# Altium integrated library Linear Technology PMIC-Switching Reg LT1074-LT8705.IntLib: 2252 symbols (part 65 of 124)
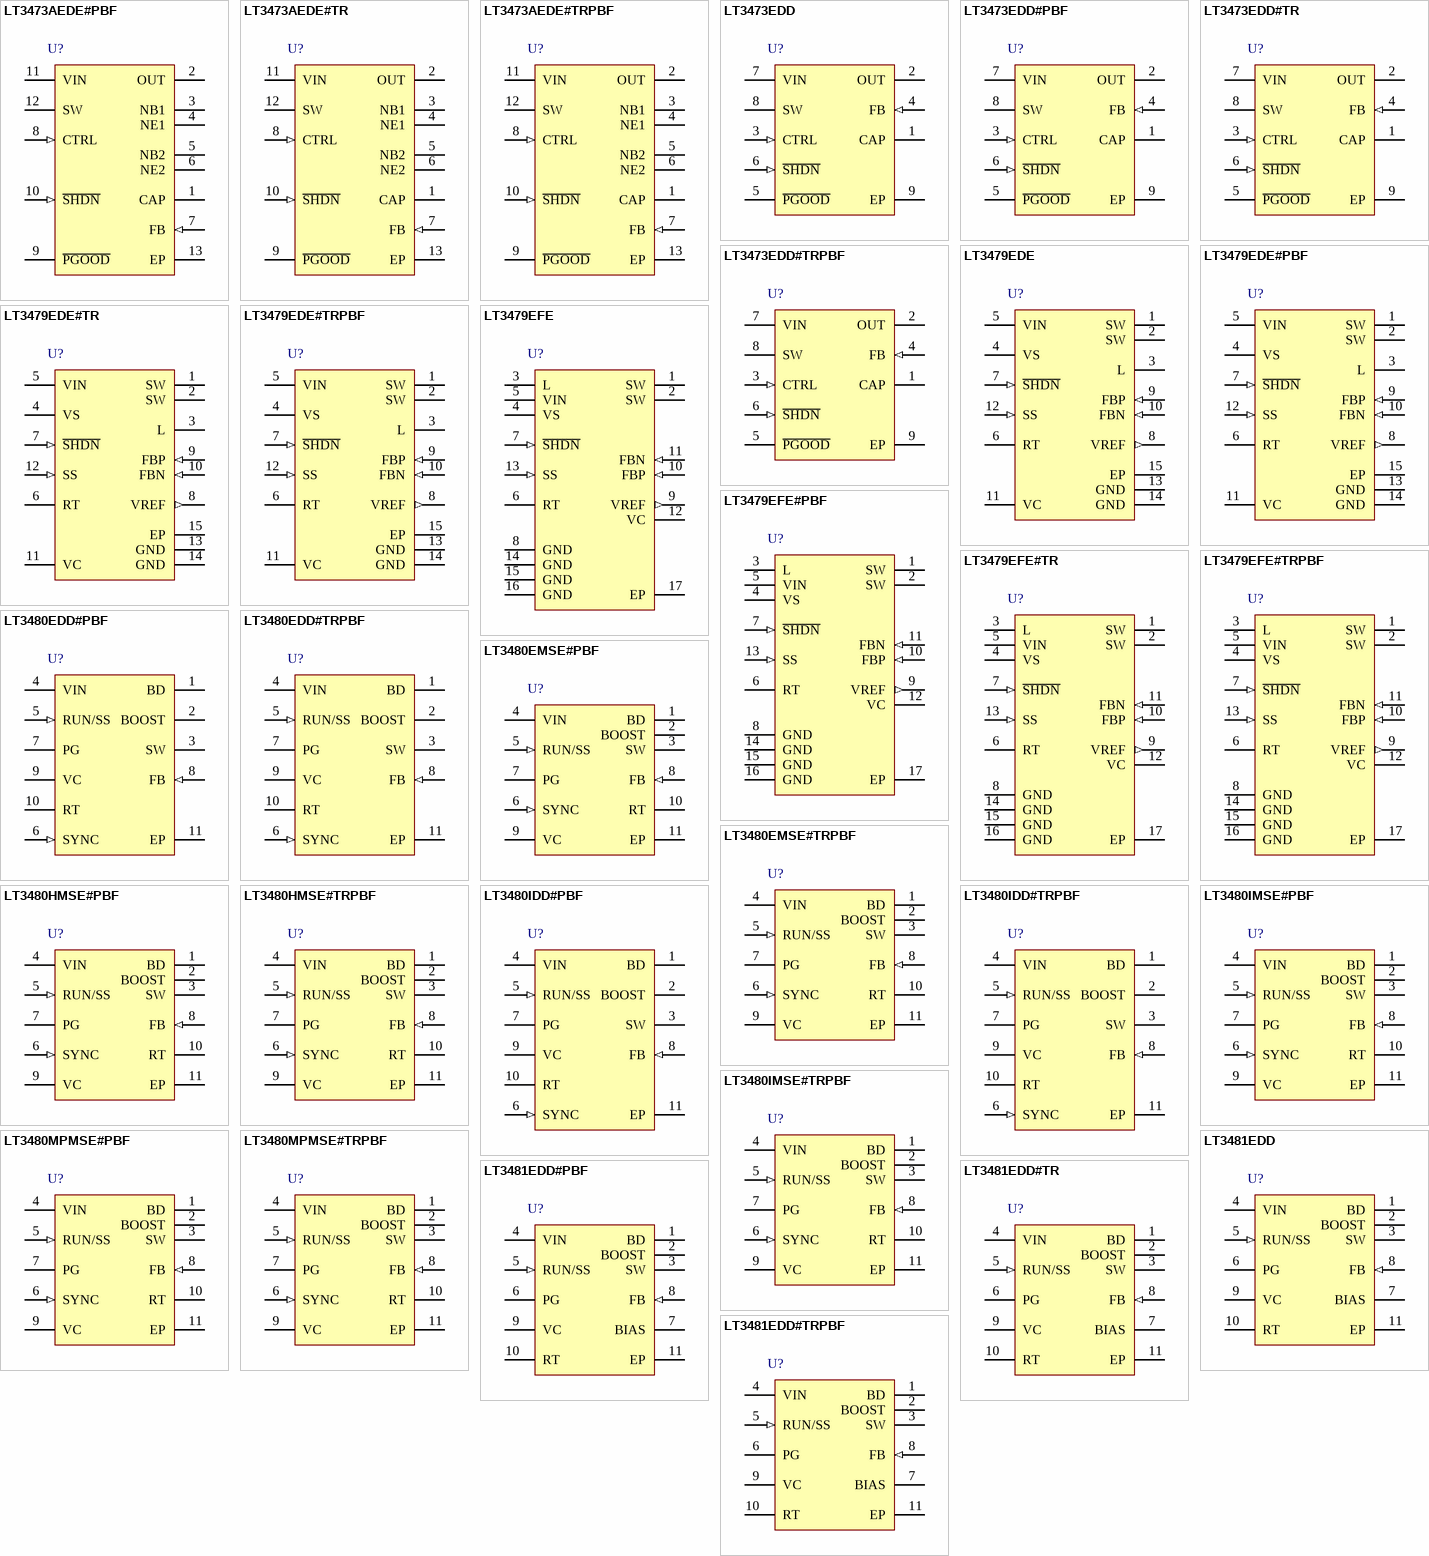
[diagram p135: symbols LT3473AEDE#PBF to LT3481EDD#TRPBF]

## LT3480EDD#TRPBF
designator U?
2 A, 2.4 MHz Step-Down Switching Regulator with 70 uA Quiescent Current, 10-pin SON (DD-10), -40 to 85 degC, Pb-Free, Tape and Reel; Manufacturer: Linear Technology; PartNumber: LT3480EDD#TRPBF; Number of Outputs: 1; PackageReference: DD-10; PackageDescription: 10-Pin Plastic DFN, Body 3 x 3 mm, Pitch 0.5 mm; Supplier 1: Digi-Key; Supplier Part Number 1: LT3480EDD#TRPBF-ND; RoHS: TRUE
footprint LT-DD-10_V (SON, 10-Leads, Body 3x3mm, Pitch 0.5mm, Thermal Pad 2.38x1.65mm)
pins: 1 BD (power) "This pin connects to the anode of the boost Schottky diode. BD also supplies current to the internal regulator.", 2 BOOST "This pin is used to provide a drive voltage, higher than the input voltage, to the internal bipolar NPN power switch.", 3 SW (power) "The SW pin is the output of the internal power switch. Connect this pin to the inductor, catch diode and boost capacitor.", 4 VIN (power) "The VIN pin supplies current to internal regulator and to the internal power switch. This pin must be locally bypassed.", 5 RUN/SS (in) "If the shutdown feature is not used, tie this pin to the VIN pin. RUN/SS also provides a soft-start function; see the Applications Information section.", 6 SYNC (in) "This is the external clock synchronization input. Ground this pin for low ripple Burst Mode operation at low output loads. Tie to a clock source for synchronization. Clock edges should have rise and fall times faster than (See Datasheet)", 7 PG (oc) "The PG pin is the open collector output of an internal comparator. PG remains low until the FB pin is within 9% of the final regulation voltage. PG output is valid when VIN is above 3.6V and RUN/SS is high.", 8 FB (in) "Connect the feedback resistor divider tap to this pin.", 9 VC "The VC pin is the output of the internal error amplifier. The voltage on this pin controls the peak switch current. Tie an RC network from this pin to ground to compensate the control loop.", 10 RT "Oscillator Resistor Input. Connecting a resistor to ground from this pin sets the switching frequency.", 11 EP (power) "Ground. The Exposed Pad must be soldered to PCB."

## LT3480EMSE#PBF
designator U?
2 A, 2.4 MHz Step-Down Switching Regulator with 70 uA Quiescent Current, 10-pin SOP (MSE-10-EDP), -40 to 85 degC, Pb-Free; Manufacturer: Linear Technology; PartNumber: LT3480EMSE#PBF; Number of Outputs: 1; PackageReference: MSE-10; PackageDescription: 10-Pin Plastic MSOP, Exposed Die Pad, Body 3 x 3 mm, Pitch 0.5 mm; Supplier 1: Digi-Key; Supplier Part Number 1: LT3480EMSE#PBF-ND; RoHS: TRUE
footprint LT-MSE-10-EDP_N (SOP, 10-Leads, Body 3.1x3.1mm, Pitch 0.5mm, Thermal Pad 1.88x1.68mm, IPC Medium Density)
footprint LT-MSE-10-EDP_L (SOP, 10-Leads, Body 3.1x3.1mm, Pitch 0.5mm, Thermal Pad 1.88x1.68mm, IPC High Density)
footprint LT-MSE-10-EDP_M (SOP, 10-Leads, Body 3.1x3.1mm, Pitch 0.5mm, Thermal Pad 1.88x1.68mm, IPC Low Density)
pins: 1 BD (power) "This pin connects to the anode of the boost Schottky diode. BD also supplies current to the internal regulator. BD must be locally bypassed when not tied to VOUT with a low ESR capacitor (1uF).", 2 BOOST "This pin is used to provide a drive voltage, higher than the input voltage, to the internal bipolar NPN power switch.", 3 SW (power) "The SW pin is the output of the internal power switch. Connect this pin to the inductor, catch diode and boost capacitor.", 4 VIN (power) "The VIN pin supplies current to the LT3480¡¯s internal regulator and to the internal power switch. This pin must be locally bypassed.", 5 RUN/SS (in) "The RUN/SS pin is used to put the LT3480 in shutdown mode. Tie to ground to shut down the LT3480. Tie to 2.5V or more for normal operation. If the shutdown feature is not used, tie this pin to the VIN pin. RUN/SS also (See Datasheet)", 6 SYNC (in) "This is the external clock synchronization input. Ground this pin for low ripple Burst Mode operation at low output loads. Tie to a clock source for synchronization. Clock edges should have rise and fall times faster than (See Datasheet)", 7 PG (oc) "The PG pin is the open collector output of an internal comparator. PG remains low until the FB pin is within 14% of the final regulation voltage. PG output is valid when VIN is above 3.6V and RUN/SS is high.", 8 FB (in) "The LT3480 regulates the FB pin to 0.790V. Connect the feedback resistor divider tap to this pin.", 9 VC "The VC pin is the output of the internal error amplifier. The voltage on this pin controls the peak switch current. Tie an RC network from this pin to ground to compensate the control loop.", 10 RT "Oscillator Resistor Input. Connecting a resistor to ground from this pin sets the switching frequency.", 11 EP (power) "Ground. The exposed pad must be soldered to PCB."

## LT3480EMSE#TRPBF
designator U?
2 A, 2.4 MHz Step-Down Switching Regulator with 70 uA Quiescent Current, 10-pin SOP (MSE-10-EDP), -40 to 85 degC, Pb-Free, Tape and Reel; Manufacturer: Linear Technology; PartNumber: LT3480EMSE#TRPBF; Number of Outputs: 1; PackageReference: MSE-10; PackageDescription: 10-Pin Plastic MSOP, Exposed Die Pad, Body 3 x 3 mm, Pitch 0.5 mm; Supplier 1: Digi-Key; Supplier Part Number 1: LT3480EMSE#TRPBF-ND; RoHS: TRUE
footprint LT-MSE-10-EDP_N (SOP, 10-Leads, Body 3.1x3.1mm, Pitch 0.5mm, Thermal Pad 1.88x1.68mm, IPC Medium Density)
footprint LT-MSE-10-EDP_L (SOP, 10-Leads, Body 3.1x3.1mm, Pitch 0.5mm, Thermal Pad 1.88x1.68mm, IPC High Density)
footprint LT-MSE-10-EDP_M (SOP, 10-Leads, Body 3.1x3.1mm, Pitch 0.5mm, Thermal Pad 1.88x1.68mm, IPC Low Density)
pins: 1 BD (power) "This pin connects to the anode of the boost Schottky diode. BD also supplies current to the internal regulator. BD must be locally bypassed when not tied to VOUT with a low ESR capacitor (1uF).", 2 BOOST "This pin is used to provide a drive voltage, higher than the input voltage, to the internal bipolar NPN power switch.", 3 SW (power) "The SW pin is the output of the internal power switch. Connect this pin to the inductor, catch diode and boost capacitor.", 4 VIN (power) "The VIN pin supplies current to the LT3480¡¯s internal regulator and to the internal power switch. This pin must be locally bypassed.", 5 RUN/SS (in) "The RUN/SS pin is used to put the LT3480 in shutdown mode. Tie to ground to shut down the LT3480. Tie to 2.5V or more for normal operation. If the shutdown feature is not used, tie this pin to the VIN pin. RUN/SS also (See Datasheet)", 6 SYNC (in) "This is the external clock synchronization input. Ground this pin for low ripple Burst Mode operation at low output loads. Tie to a clock source for synchronization. Clock edges should have rise and fall times faster than (See Datasheet)", 7 PG (oc) "The PG pin is the open collector output of an internal comparator. PG remains low until the FB pin is within 14% of the final regulation voltage. PG output is valid when VIN is above 3.6V and RUN/SS is high.", 8 FB (in) "The LT3480 regulates the FB pin to 0.790V. Connect the feedback resistor divider tap to this pin.", 9 VC "The VC pin is the output of the internal error amplifier. The voltage on this pin controls the peak switch current. Tie an RC network from this pin to ground to compensate the control loop.", 10 RT "Oscillator Resistor Input. Connecting a resistor to ground from this pin sets the switching frequency.", 11 EP (power) "Ground. The exposed pad must be soldered to PCB."

## LT3480HMSE#PBF
designator U?
2 A, 2.4 MHz Step-Down Switching Regulator with 70 uA Quiescent Current, 10-pin SOP (MSE-10-EDP), -40 to 150 degC, Pb-Free; Manufacturer: Linear Technology; PartNumber: LT3480HMSE#PBF; Number of Outputs: 1; PackageReference: MSE-10; PackageDescription: 10-Pin Plastic MSOP, Exposed Die Pad, Body 3 x 3 mm, Pitch 0.5 mm; Supplier 1: Digi-Key; Supplier Part Number 1: LT3480HMSE#PBF-ND; RoHS: TRUE
footprint LT-MSE-10-EDP_N (SOP, 10-Leads, Body 3.1x3.1mm, Pitch 0.5mm, Thermal Pad 1.88x1.68mm, IPC Medium Density)
footprint LT-MSE-10-EDP_L (SOP, 10-Leads, Body 3.1x3.1mm, Pitch 0.5mm, Thermal Pad 1.88x1.68mm, IPC High Density)
footprint LT-MSE-10-EDP_M (SOP, 10-Leads, Body 3.1x3.1mm, Pitch 0.5mm, Thermal Pad 1.88x1.68mm, IPC Low Density)
pins: 1 BD (power) "This pin connects to the anode of the boost Schottky diode. BD also supplies current to the internal regulator. BD must be locally bypassed when not tied to VOUT with a low ESR capacitor (1uF).", 2 BOOST "This pin is used to provide a drive voltage, higher than the input voltage, to the internal bipolar NPN power switch.", 3 SW (power) "The SW pin is the output of the internal power switch. Connect this pin to the inductor, catch diode and boost capacitor.", 4 VIN (power) "The VIN pin supplies current to the LT3480¡¯s internal regulator and to the internal power switch. This pin must be locally bypassed.", 5 RUN/SS (in) "The RUN/SS pin is used to put the LT3480 in shutdown mode. Tie to ground to shut down the LT3480. Tie to 2.5V or more for normal operation. If the shutdown feature is not used, tie this pin to the VIN pin. RUN/SS also (See Datasheet)", 6 SYNC (in) "This is the external clock synchronization input. Ground this pin for low ripple Burst Mode operation at low output loads. Tie to a clock source for synchronization. Clock edges should have rise and fall times faster than (See Datasheet)", 7 PG (oc) "The PG pin is the open collector output of an internal comparator. PG remains low until the FB pin is within 14% of the final regulation voltage. PG output is valid when VIN is above 3.6V and RUN/SS is high.", 8 FB (in) "The LT3480 regulates the FB pin to 0.790V. Connect the feedback resistor divider tap to this pin.", 9 VC "The VC pin is the output of the internal error amplifier. The voltage on this pin controls the peak switch current. Tie an RC network from this pin to ground to compensate the control loop.", 10 RT "Oscillator Resistor Input. Connecting a resistor to ground from this pin sets the switching frequency.", 11 EP (power) "Ground. The exposed pad must be soldered to PCB."

## LT3480HMSE#TRPBF
designator U?
2 A, 2.4 MHz Step-Down Switching Regulator with 70 uA Quiescent Current, 10-pin SOP (MSE-10-EDP), -40 to 150 degC, Pb-Free, Tape and Reel; Manufacturer: Linear Technology; PartNumber: LT3480HMSE#TRPBF; Number of Outputs: 1; PackageReference: MSE-10; PackageDescription: 10-Pin Plastic MSOP, Exposed Die Pad, Body 3 x 3 mm, Pitch 0.5 mm; Supplier 1: Digi-Key; Supplier Part Number 1: LT3480HMSE#TRPBF-ND; RoHS: TRUE
footprint LT-MSE-10-EDP_N (SOP, 10-Leads, Body 3.1x3.1mm, Pitch 0.5mm, Thermal Pad 1.88x1.68mm, IPC Medium Density)
footprint LT-MSE-10-EDP_L (SOP, 10-Leads, Body 3.1x3.1mm, Pitch 0.5mm, Thermal Pad 1.88x1.68mm, IPC High Density)
footprint LT-MSE-10-EDP_M (SOP, 10-Leads, Body 3.1x3.1mm, Pitch 0.5mm, Thermal Pad 1.88x1.68mm, IPC Low Density)
pins: 1 BD (power) "This pin connects to the anode of the boost Schottky diode. BD also supplies current to the internal regulator. BD must be locally bypassed when not tied to VOUT with a low ESR capacitor (1uF).", 2 BOOST "This pin is used to provide a drive voltage, higher than the input voltage, to the internal bipolar NPN power switch.", 3 SW (power) "The SW pin is the output of the internal power switch. Connect this pin to the inductor, catch diode and boost capacitor.", 4 VIN (power) "The VIN pin supplies current to the LT3480¡¯s internal regulator and to the internal power switch. This pin must be locally bypassed.", 5 RUN/SS (in) "The RUN/SS pin is used to put the LT3480 in shutdown mode. Tie to ground to shut down the LT3480. Tie to 2.5V or more for normal operation. If the shutdown feature is not used, tie this pin to the VIN pin. RUN/SS also (See Datasheet)", 6 SYNC (in) "This is the external clock synchronization input. Ground this pin for low ripple Burst Mode operation at low output loads. Tie to a clock source for synchronization. Clock edges should have rise and fall times faster than (See Datasheet)", 7 PG (oc) "The PG pin is the open collector output of an internal comparator. PG remains low until the FB pin is within 14% of the final regulation voltage. PG output is valid when VIN is above 3.6V and RUN/SS is high.", 8 FB (in) "The LT3480 regulates the FB pin to 0.790V. Connect the feedback resistor divider tap to this pin.", 9 VC "The VC pin is the output of the internal error amplifier. The voltage on this pin controls the peak switch current. Tie an RC network from this pin to ground to compensate the control loop.", 10 RT "Oscillator Resistor Input. Connecting a resistor to ground from this pin sets the switching frequency.", 11 EP (power) "Ground. The exposed pad must be soldered to PCB."

## LT3480IDD#PBF
designator U?
2 A, 2.4 MHz Step-Down Switching Regulator with 70 uA Quiescent Current, 10-pin SON (DD-10), -40 to 125 degC, Pb-Free; Manufacturer: Linear Technology; PartNumber: LT3480IDD#PBF; Number of Outputs: 1; PackageReference: DD-10; PackageDescription: 10-Pin Plastic DFN, Body 3 x 3 mm, Pitch 0.5 mm; Supplier 1: Digi-Key; Supplier Part Number 1: LT3480IDD#PBF-ND; RoHS: TRUE
footprint LT-DD-10_V (SON, 10-Leads, Body 3x3mm, Pitch 0.5mm, Thermal Pad 2.38x1.65mm)
pins: 1 BD (power) "This pin connects to the anode of the boost Schottky diode. BD also supplies current to the internal regulator.", 2 BOOST "This pin is used to provide a drive voltage, higher than the input voltage, to the internal bipolar NPN power switch.", 3 SW (power) "The SW pin is the output of the internal power switch. Connect this pin to the inductor, catch diode and boost capacitor.", 4 VIN (power) "The VIN pin supplies current to internal regulator and to the internal power switch. This pin must be locally bypassed.", 5 RUN/SS (in) "If the shutdown feature is not used, tie this pin to the VIN pin. RUN/SS also provides a soft-start function; see the Applications Information section.", 6 SYNC (in) "This is the external clock synchronization input. Ground this pin for low ripple Burst Mode operation at low output loads. Tie to a clock source for synchronization. Clock edges should have rise and fall times faster than (See Datasheet)", 7 PG (oc) "The PG pin is the open collector output of an internal comparator. PG remains low until the FB pin is within 9% of the final regulation voltage. PG output is valid when VIN is above 3.6V and RUN/SS is high.", 8 FB (in) "Connect the feedback resistor divider tap to this pin.", 9 VC "The VC pin is the output of the internal error amplifier. The voltage on this pin controls the peak switch current. Tie an RC network from this pin to ground to compensate the control loop.", 10 RT "Oscillator Resistor Input. Connecting a resistor to ground from this pin sets the switching frequency.", 11 EP (power) "Ground. The Exposed Pad must be soldered to PCB."

## LT3480IDD#TRPBF
designator U?
2 A, 2.4 MHz Step-Down Switching Regulator with 70 uA Quiescent Current, 10-pin SON (DD-10), -40 to 125 degC, Pb-Free, Tape and Reel; Manufacturer: Linear Technology; PartNumber: LT3480IDD#TRPBF; Number of Outputs: 1; PackageReference: DD-10; PackageDescription: 10-Pin Plastic DFN, Body 3 x 3 mm, Pitch 0.5 mm; Supplier 1: Digi-Key; Supplier Part Number 1: LT3480IDD#TRPBF-ND; RoHS: TRUE
footprint LT-DD-10_V (SON, 10-Leads, Body 3x3mm, Pitch 0.5mm, Thermal Pad 2.38x1.65mm)
pins: 1 BD (power) "This pin connects to the anode of the boost Schottky diode. BD also supplies current to the internal regulator.", 2 BOOST "This pin is used to provide a drive voltage, higher than the input voltage, to the internal bipolar NPN power switch.", 3 SW (power) "The SW pin is the output of the internal power switch. Connect this pin to the inductor, catch diode and boost capacitor.", 4 VIN (power) "The VIN pin supplies current to internal regulator and to the internal power switch. This pin must be locally bypassed.", 5 RUN/SS (in) "If the shutdown feature is not used, tie this pin to the VIN pin. RUN/SS also provides a soft-start function; see the Applications Information section.", 6 SYNC (in) "This is the external clock synchronization input. Ground this pin for low ripple Burst Mode operation at low output loads. Tie to a clock source for synchronization. Clock edges should have rise and fall times faster than (See Datasheet)", 7 PG (oc) "The PG pin is the open collector output of an internal comparator. PG remains low until the FB pin is within 9% of the final regulation voltage. PG output is valid when VIN is above 3.6V and RUN/SS is high.", 8 FB (in) "Connect the feedback resistor divider tap to this pin.", 9 VC "The VC pin is the output of the internal error amplifier. The voltage on this pin controls the peak switch current. Tie an RC network from this pin to ground to compensate the control loop.", 10 RT "Oscillator Resistor Input. Connecting a resistor to ground from this pin sets the switching frequency.", 11 EP (power) "Ground. The Exposed Pad must be soldered to PCB."

## LT3480IMSE#PBF
designator U?
2 A, 2.4 MHz Step-Down Switching Regulator with 70 uA Quiescent Current, 10-pin SOP (MSE-10-EDP), -40 to 125 degC, Pb-Free; Manufacturer: Linear Technology; PartNumber: LT3480IMSE#PBF; Number of Outputs: 1; PackageReference: MSE-10; PackageDescription: 10-Pin Plastic MSOP, Exposed Die Pad, Body 3 x 3 mm, Pitch 0.5 mm; Supplier 1: Digi-Key; Supplier Part Number 1: LT3480IMSE#PBF-ND; RoHS: TRUE
footprint LT-MSE-10-EDP_N (SOP, 10-Leads, Body 3.1x3.1mm, Pitch 0.5mm, Thermal Pad 1.88x1.68mm, IPC Medium Density)
footprint LT-MSE-10-EDP_L (SOP, 10-Leads, Body 3.1x3.1mm, Pitch 0.5mm, Thermal Pad 1.88x1.68mm, IPC High Density)
footprint LT-MSE-10-EDP_M (SOP, 10-Leads, Body 3.1x3.1mm, Pitch 0.5mm, Thermal Pad 1.88x1.68mm, IPC Low Density)
pins: 1 BD (power) "This pin connects to the anode of the boost Schottky diode. BD also supplies current to the internal regulator. BD must be locally bypassed when not tied to VOUT with a low ESR capacitor (1uF).", 2 BOOST "This pin is used to provide a drive voltage, higher than the input voltage, to the internal bipolar NPN power switch.", 3 SW (power) "The SW pin is the output of the internal power switch. Connect this pin to the inductor, catch diode and boost capacitor.", 4 VIN (power) "The VIN pin supplies current to the LT3480¡¯s internal regulator and to the internal power switch. This pin must be locally bypassed.", 5 RUN/SS (in) "The RUN/SS pin is used to put the LT3480 in shutdown mode. Tie to ground to shut down the LT3480. Tie to 2.5V or more for normal operation. If the shutdown feature is not used, tie this pin to the VIN pin. RUN/SS also (See Datasheet)", 6 SYNC (in) "This is the external clock synchronization input. Ground this pin for low ripple Burst Mode operation at low output loads. Tie to a clock source for synchronization. Clock edges should have rise and fall times faster than (See Datasheet)", 7 PG (oc) "The PG pin is the open collector output of an internal comparator. PG remains low until the FB pin is within 14% of the final regulation voltage. PG output is valid when VIN is above 3.6V and RUN/SS is high.", 8 FB (in) "The LT3480 regulates the FB pin to 0.790V. Connect the feedback resistor divider tap to this pin.", 9 VC "The VC pin is the output of the internal error amplifier. The voltage on this pin controls the peak switch current. Tie an RC network from this pin to ground to compensate the control loop.", 10 RT "Oscillator Resistor Input. Connecting a resistor to ground from this pin sets the switching frequency.", 11 EP (power) "Ground. The exposed pad must be soldered to PCB."

## LT3480IMSE#TRPBF
designator U?
2 A, 2.4 MHz Step-Down Switching Regulator with 70 uA Quiescent Current, 10-pin SOP (MSE-10-EDP), -40 to 125 degC, Pb-Free, Tape and Reel; Manufacturer: Linear Technology; PartNumber: LT3480IMSE#TRPBF; Number of Outputs: 1; PackageReference: MSE-10; PackageDescription: 10-Pin Plastic MSOP, Exposed Die Pad, Body 3 x 3 mm, Pitch 0.5 mm; Supplier 1: Digi-Key; Supplier Part Number 1: LT3480IMSE#TRPBF-ND; RoHS: TRUE
footprint LT-MSE-10-EDP_N (SOP, 10-Leads, Body 3.1x3.1mm, Pitch 0.5mm, Thermal Pad 1.88x1.68mm, IPC Medium Density)
footprint LT-MSE-10-EDP_L (SOP, 10-Leads, Body 3.1x3.1mm, Pitch 0.5mm, Thermal Pad 1.88x1.68mm, IPC High Density)
footprint LT-MSE-10-EDP_M (SOP, 10-Leads, Body 3.1x3.1mm, Pitch 0.5mm, Thermal Pad 1.88x1.68mm, IPC Low Density)
pins: 1 BD (power) "This pin connects to the anode of the boost Schottky diode. BD also supplies current to the internal regulator. BD must be locally bypassed when not tied to VOUT with a low ESR capacitor (1uF).", 2 BOOST "This pin is used to provide a drive voltage, higher than the input voltage, to the internal bipolar NPN power switch.", 3 SW (power) "The SW pin is the output of the internal power switch. Connect this pin to the inductor, catch diode and boost capacitor.", 4 VIN (power) "The VIN pin supplies current to the LT3480¡¯s internal regulator and to the internal power switch. This pin must be locally bypassed.", 5 RUN/SS (in) "The RUN/SS pin is used to put the LT3480 in shutdown mode. Tie to ground to shut down the LT3480. Tie to 2.5V or more for normal operation. If the shutdown feature is not used, tie this pin to the VIN pin. RUN/SS also (See Datasheet)", 6 SYNC (in) "This is the external clock synchronization input. Ground this pin for low ripple Burst Mode operation at low output loads. Tie to a clock source for synchronization. Clock edges should have rise and fall times faster than (See Datasheet)", 7 PG (oc) "The PG pin is the open collector output of an internal comparator. PG remains low until the FB pin is within 14% of the final regulation voltage. PG output is valid when VIN is above 3.6V and RUN/SS is high.", 8 FB (in) "The LT3480 regulates the FB pin to 0.790V. Connect the feedback resistor divider tap to this pin.", 9 VC "The VC pin is the output of the internal error amplifier. The voltage on this pin controls the peak switch current. Tie an RC network from this pin to ground to compensate the control loop.", 10 RT "Oscillator Resistor Input. Connecting a resistor to ground from this pin sets the switching frequency.", 11 EP (power) "Ground. The exposed pad must be soldered to PCB."

## LT3480MPMSE#PBF
designator U?
2 A, 2.4 MHz Step-Down Switching Regulator with 70 uA Quiescent Current, 10-pin SOP (MSE-10-EDP), -55 to 150 degC, Pb-Free; Manufacturer: Linear Technology; PartNumber: LT3480MPMSE#PBF; Number of Outputs: 1; PackageReference: MSE-10; PackageDescription: 10-Pin Plastic MSOP, Exposed Die Pad, Body 3 x 3 mm, Pitch 0.5 mm; Supplier 1: Digi-Key; Supplier Part Number 1: LT3480MPMSE#PBF-ND; RoHS: TRUE
footprint LT-MSE-10-EDP_N (SOP, 10-Leads, Body 3.1x3.1mm, Pitch 0.5mm, Thermal Pad 1.88x1.68mm, IPC Medium Density)
footprint LT-MSE-10-EDP_L (SOP, 10-Leads, Body 3.1x3.1mm, Pitch 0.5mm, Thermal Pad 1.88x1.68mm, IPC High Density)
footprint LT-MSE-10-EDP_M (SOP, 10-Leads, Body 3.1x3.1mm, Pitch 0.5mm, Thermal Pad 1.88x1.68mm, IPC Low Density)
pins: 1 BD (power) "This pin connects to the anode of the boost Schottky diode. BD also supplies current to the internal regulator. BD must be locally bypassed when not tied to VOUT with a low ESR capacitor (1uF).", 2 BOOST "This pin is used to provide a drive voltage, higher than the input voltage, to the internal bipolar NPN power switch.", 3 SW (power) "The SW pin is the output of the internal power switch. Connect this pin to the inductor, catch diode and boost capacitor.", 4 VIN (power) "The VIN pin supplies current to the LT3480¡¯s internal regulator and to the internal power switch. This pin must be locally bypassed.", 5 RUN/SS (in) "The RUN/SS pin is used to put the LT3480 in shutdown mode. Tie to ground to shut down the LT3480. Tie to 2.5V or more for normal operation. If the shutdown feature is not used, tie this pin to the VIN pin. RUN/SS also (See Datasheet)", 6 SYNC (in) "This is the external clock synchronization input. Ground this pin for low ripple Burst Mode operation at low output loads. Tie to a clock source for synchronization. Clock edges should have rise and fall times faster than (See Datasheet)", 7 PG (oc) "The PG pin is the open collector output of an internal comparator. PG remains low until the FB pin is within 14% of the final regulation voltage. PG output is valid when VIN is above 3.6V and RUN/SS is high.", 8 FB (in) "The LT3480 regulates the FB pin to 0.790V. Connect the feedback resistor divider tap to this pin.", 9 VC "The VC pin is the output of the internal error amplifier. The voltage on this pin controls the peak switch current. Tie an RC network from this pin to ground to compensate the control loop.", 10 RT "Oscillator Resistor Input. Connecting a resistor to ground from this pin sets the switching frequency.", 11 EP (power) "Ground. The exposed pad must be soldered to PCB."

## LT3480MPMSE#TRPBF
designator U?
2 A, 2.4 MHz Step-Down Switching Regulator with 70 uA Quiescent Current, 10-pin SOP (MSE-10-EDP), -55 to 150 degC, Pb-Free, Tape and Reel; Manufacturer: Linear Technology; PartNumber: LT3480MPMSE#TRPBF; Number of Outputs: 1; PackageReference: MSE-10; PackageDescription: 10-Pin Plastic MSOP, Exposed Die Pad, Body 3 x 3 mm, Pitch 0.5 mm; Supplier 1: Digi-Key; Supplier Part Number 1: LT3480MPMSE#TRPBF-ND; RoHS: TRUE
footprint LT-MSE-10-EDP_N (SOP, 10-Leads, Body 3.1x3.1mm, Pitch 0.5mm, Thermal Pad 1.88x1.68mm, IPC Medium Density)
footprint LT-MSE-10-EDP_L (SOP, 10-Leads, Body 3.1x3.1mm, Pitch 0.5mm, Thermal Pad 1.88x1.68mm, IPC High Density)
footprint LT-MSE-10-EDP_M (SOP, 10-Leads, Body 3.1x3.1mm, Pitch 0.5mm, Thermal Pad 1.88x1.68mm, IPC Low Density)
pins: 1 BD (power) "This pin connects to the anode of the boost Schottky diode. BD also supplies current to the internal regulator. BD must be locally bypassed when not tied to VOUT with a low ESR capacitor (1uF).", 2 BOOST "This pin is used to provide a drive voltage, higher than the input voltage, to the internal bipolar NPN power switch.", 3 SW (power) "The SW pin is the output of the internal power switch. Connect this pin to the inductor, catch diode and boost capacitor.", 4 VIN (power) "The VIN pin supplies current to the LT3480¡¯s internal regulator and to the internal power switch. This pin must be locally bypassed.", 5 RUN/SS (in) "The RUN/SS pin is used to put the LT3480 in shutdown mode. Tie to ground to shut down the LT3480. Tie to 2.5V or more for normal operation. If the shutdown feature is not used, tie this pin to the VIN pin. RUN/SS also (See Datasheet)", 6 SYNC (in) "This is the external clock synchronization input. Ground this pin for low ripple Burst Mode operation at low output loads. Tie to a clock source for synchronization. Clock edges should have rise and fall times faster than (See Datasheet)", 7 PG (oc) "The PG pin is the open collector output of an internal comparator. PG remains low until the FB pin is within 14% of the final regulation voltage. PG output is valid when VIN is above 3.6V and RUN/SS is high.", 8 FB (in) "The LT3480 regulates the FB pin to 0.790V. Connect the feedback resistor divider tap to this pin.", 9 VC "The VC pin is the output of the internal error amplifier. The voltage on this pin controls the peak switch current. Tie an RC network from this pin to ground to compensate the control loop.", 10 RT "Oscillator Resistor Input. Connecting a resistor to ground from this pin sets the switching frequency.", 11 EP (power) "Ground. The exposed pad must be soldered to PCB."

## LT3481EDD
designator U?
2 A, 2.8 MHz Step-Down Switching Regulator with 50 uA Quiescent Current, 10-pin SON (DD-10), -40 to 85 degC; Manufacturer: Linear Technology; PartNumber: LT3481EDD; Number of Outputs: 1; PackageReference: DD-10; PackageDescription: 10-Pin Plastic DFN, Body 3 x 3 mm, Pitch 0.5 mm; RoHS: FALSE
footprint LT-DD-10_V (SON, 10-Leads, Body 3x3mm, Pitch 0.5mm, Thermal Pad 2.38x1.65mm)
pins: 1 BD (power) "This pin connects to the anode of the boost Schottky diode.", 2 BOOST "This pin is used to provide a drive voltage, higher than the input voltage, to the internal bipolar NPN power switch.", 3 SW (power) "The SW pin is the output of the internal power switch. Connect this pin to the inductor, catch diode and boost capacitor.", 4 VIN (power) "The VIN pin supplies current to the LT3481's internal regulator and to the internal power switch. This pin must be locally bypassed.", 5 RUN/SS (in) "The RUN/SS pin is used to put the LT3481 in shutdown mode. Tie to ground to shut down the LT3481. Tie to 2.3V or more for normal operation. If the shutdown feature is not used, tie this pin to the VIN pin. RUN/SS also (See Datasheet)", 6 PG (oc) "The PG pin is the open-collector output of an internal comparator. PG remains low until the FB pin is within 10% of the final regulation voltage. PG output is valid when VIN is above 3.5V and RUN/SS is high.", 7 BIAS (power) "The BIAS pin supplies the current to the LT3481's internal regulator. Tie this pin to the lowest available voltage source above 3V (typically VOUT). This architecture increases efficiency especially when the input voltag(See Datasheet)", 8 FB (in) "The LT3481 regulates the FB pin to 1.265V. Connect the feedback resistor divider tap to this pin.", 9 VC "The VC pin is the output of the internal error amplifier. The voltage on this pin controls the peak switch current. Tie an RC network from this pin to ground to compensate the control loop.", 10 RT "Oscillator Resistor Input. Connecting a resistor to ground from this pin sets the switching frequency.", 11 EP (power) "Ground. The Exposed Pad must be soldered to PCB."

## LT3481EDD#PBF
designator U?
2 A, 2.8 MHz Step-Down Switching Regulator with 50 uA Quiescent Current, 10-pin SON (DD-10), -40 to 85 degC, Pb-Free; Manufacturer: Linear Technology; PartNumber: LT3481EDD#PBF; Number of Outputs: 1; PackageReference: DD-10; PackageDescription: 10-Pin Plastic DFN, Body 3 x 3 mm, Pitch 0.5 mm; Supplier 1: Digi-Key; Supplier Part Number 1: LT3481EDD#PBF-ND; RoHS: TRUE
footprint LT-DD-10_V (SON, 10-Leads, Body 3x3mm, Pitch 0.5mm, Thermal Pad 2.38x1.65mm)
pins: 1 BD (power) "This pin connects to the anode of the boost Schottky diode.", 2 BOOST "This pin is used to provide a drive voltage, higher than the input voltage, to the internal bipolar NPN power switch.", 3 SW (power) "The SW pin is the output of the internal power switch. Connect this pin to the inductor, catch diode and boost capacitor.", 4 VIN (power) "The VIN pin supplies current to the LT3481's internal regulator and to the internal power switch. This pin must be locally bypassed.", 5 RUN/SS (in) "The RUN/SS pin is used to put the LT3481 in shutdown mode. Tie to ground to shut down the LT3481. Tie to 2.3V or more for normal operation. If the shutdown feature is not used, tie this pin to the VIN pin. RUN/SS also (See Datasheet)", 6 PG (oc) "The PG pin is the open-collector output of an internal comparator. PG remains low until the FB pin is within 10% of the final regulation voltage. PG output is valid when VIN is above 3.5V and RUN/SS is high.", 7 BIAS (power) "The BIAS pin supplies the current to the LT3481's internal regulator. Tie this pin to the lowest available voltage source above 3V (typically VOUT). This architecture increases efficiency especially when the input voltag(See Datasheet)", 8 FB (in) "The LT3481 regulates the FB pin to 1.265V. Connect the feedback resistor divider tap to this pin.", 9 VC "The VC pin is the output of the internal error amplifier. The voltage on this pin controls the peak switch current. Tie an RC network from this pin to ground to compensate the control loop.", 10 RT "Oscillator Resistor Input. Connecting a resistor to ground from this pin sets the switching frequency.", 11 EP (power) "Ground. The Exposed Pad must be soldered to PCB."

## LT3481EDD#TR
designator U?
2 A, 2.8 MHz Step-Down Switching Regulator with 50 uA Quiescent Current, 10-pin SON (DD-10), -40 to 85 degC, Tape and Reel; Manufacturer: Linear Technology; PartNumber: LT3481EDD#TR; Number of Outputs: 1; PackageReference: DD-10; PackageDescription: 10-Pin Plastic DFN, Body 3 x 3 mm, Pitch 0.5 mm; RoHS: FALSE
footprint LT-DD-10_V (SON, 10-Leads, Body 3x3mm, Pitch 0.5mm, Thermal Pad 2.38x1.65mm)
pins: 1 BD (power) "This pin connects to the anode of the boost Schottky diode.", 2 BOOST "This pin is used to provide a drive voltage, higher than the input voltage, to the internal bipolar NPN power switch.", 3 SW (power) "The SW pin is the output of the internal power switch. Connect this pin to the inductor, catch diode and boost capacitor.", 4 VIN (power) "The VIN pin supplies current to the LT3481's internal regulator and to the internal power switch. This pin must be locally bypassed.", 5 RUN/SS (in) "The RUN/SS pin is used to put the LT3481 in shutdown mode. Tie to ground to shut down the LT3481. Tie to 2.3V or more for normal operation. If the shutdown feature is not used, tie this pin to the VIN pin. RUN/SS also (See Datasheet)", 6 PG (oc) "The PG pin is the open-collector output of an internal comparator. PG remains low until the FB pin is within 10% of the final regulation voltage. PG output is valid when VIN is above 3.5V and RUN/SS is high.", 7 BIAS (power) "The BIAS pin supplies the current to the LT3481's internal regulator. Tie this pin to the lowest available voltage source above 3V (typically VOUT). This architecture increases efficiency especially when the input voltag(See Datasheet)", 8 FB (in) "The LT3481 regulates the FB pin to 1.265V. Connect the feedback resistor divider tap to this pin.", 9 VC "The VC pin is the output of the internal error amplifier. The voltage on this pin controls the peak switch current. Tie an RC network from this pin to ground to compensate the control loop.", 10 RT "Oscillator Resistor Input. Connecting a resistor to ground from this pin sets the switching frequency.", 11 EP (power) "Ground. The Exposed Pad must be soldered to PCB."

## LT3481EDD#TRPBF
designator U?
2 A, 2.8 MHz Step-Down Switching Regulator with 50 uA Quiescent Current, 10-pin SON (DD-10), -40 to 85 degC, Pb-Free, Tape and Reel; Manufacturer: Linear Technology; PartNumber: LT3481EDD#TRPBF; Number of Outputs: 1; PackageReference: DD-10; PackageDescription: 10-Pin Plastic DFN, Body 3 x 3 mm, Pitch 0.5 mm; Supplier 1: Digi-Key; Supplier Part Number 1: LT3481EDD#TRPBF-ND; RoHS: TRUE
footprint LT-DD-10_V (SON, 10-Leads, Body 3x3mm, Pitch 0.5mm, Thermal Pad 2.38x1.65mm)
pins: 1 BD (power) "This pin connects to the anode of the boost Schottky diode.", 2 BOOST "This pin is used to provide a drive voltage, higher than the input voltage, to the internal bipolar NPN power switch.", 3 SW (power) "The SW pin is the output of the internal power switch. Connect this pin to the inductor, catch diode and boost capacitor.", 4 VIN (power) "The VIN pin supplies current to the LT3481's internal regulator and to the internal power switch. This pin must be locally bypassed.", 5 RUN/SS (in) "The RUN/SS pin is used to put the LT3481 in shutdown mode. Tie to ground to shut down the LT3481. Tie to 2.3V or more for normal operation. If the shutdown feature is not used, tie this pin to the VIN pin. RUN/SS also (See Datasheet)", 6 PG (oc) "The PG pin is the open-collector output of an internal comparator. PG remains low until the FB pin is within 10% of the final regulation voltage. PG output is valid when VIN is above 3.5V and RUN/SS is high.", 7 BIAS (power) "The BIAS pin supplies the current to the LT3481's internal regulator. Tie this pin to the lowest available voltage source above 3V (typically VOUT). This architecture increases efficiency especially when the input voltag(See Datasheet)", 8 FB (in) "The LT3481 regulates the FB pin to 1.265V. Connect the feedback resistor divider tap to this pin.", 9 VC "The VC pin is the output of the internal error amplifier. The voltage on this pin controls the peak switch current. Tie an RC network from this pin to ground to compensate the control loop.", 10 RT "Oscillator Resistor Input. Connecting a resistor to ground from this pin sets the switching frequency.", 11 EP (power) "Ground. The Exposed Pad must be soldered to PCB."

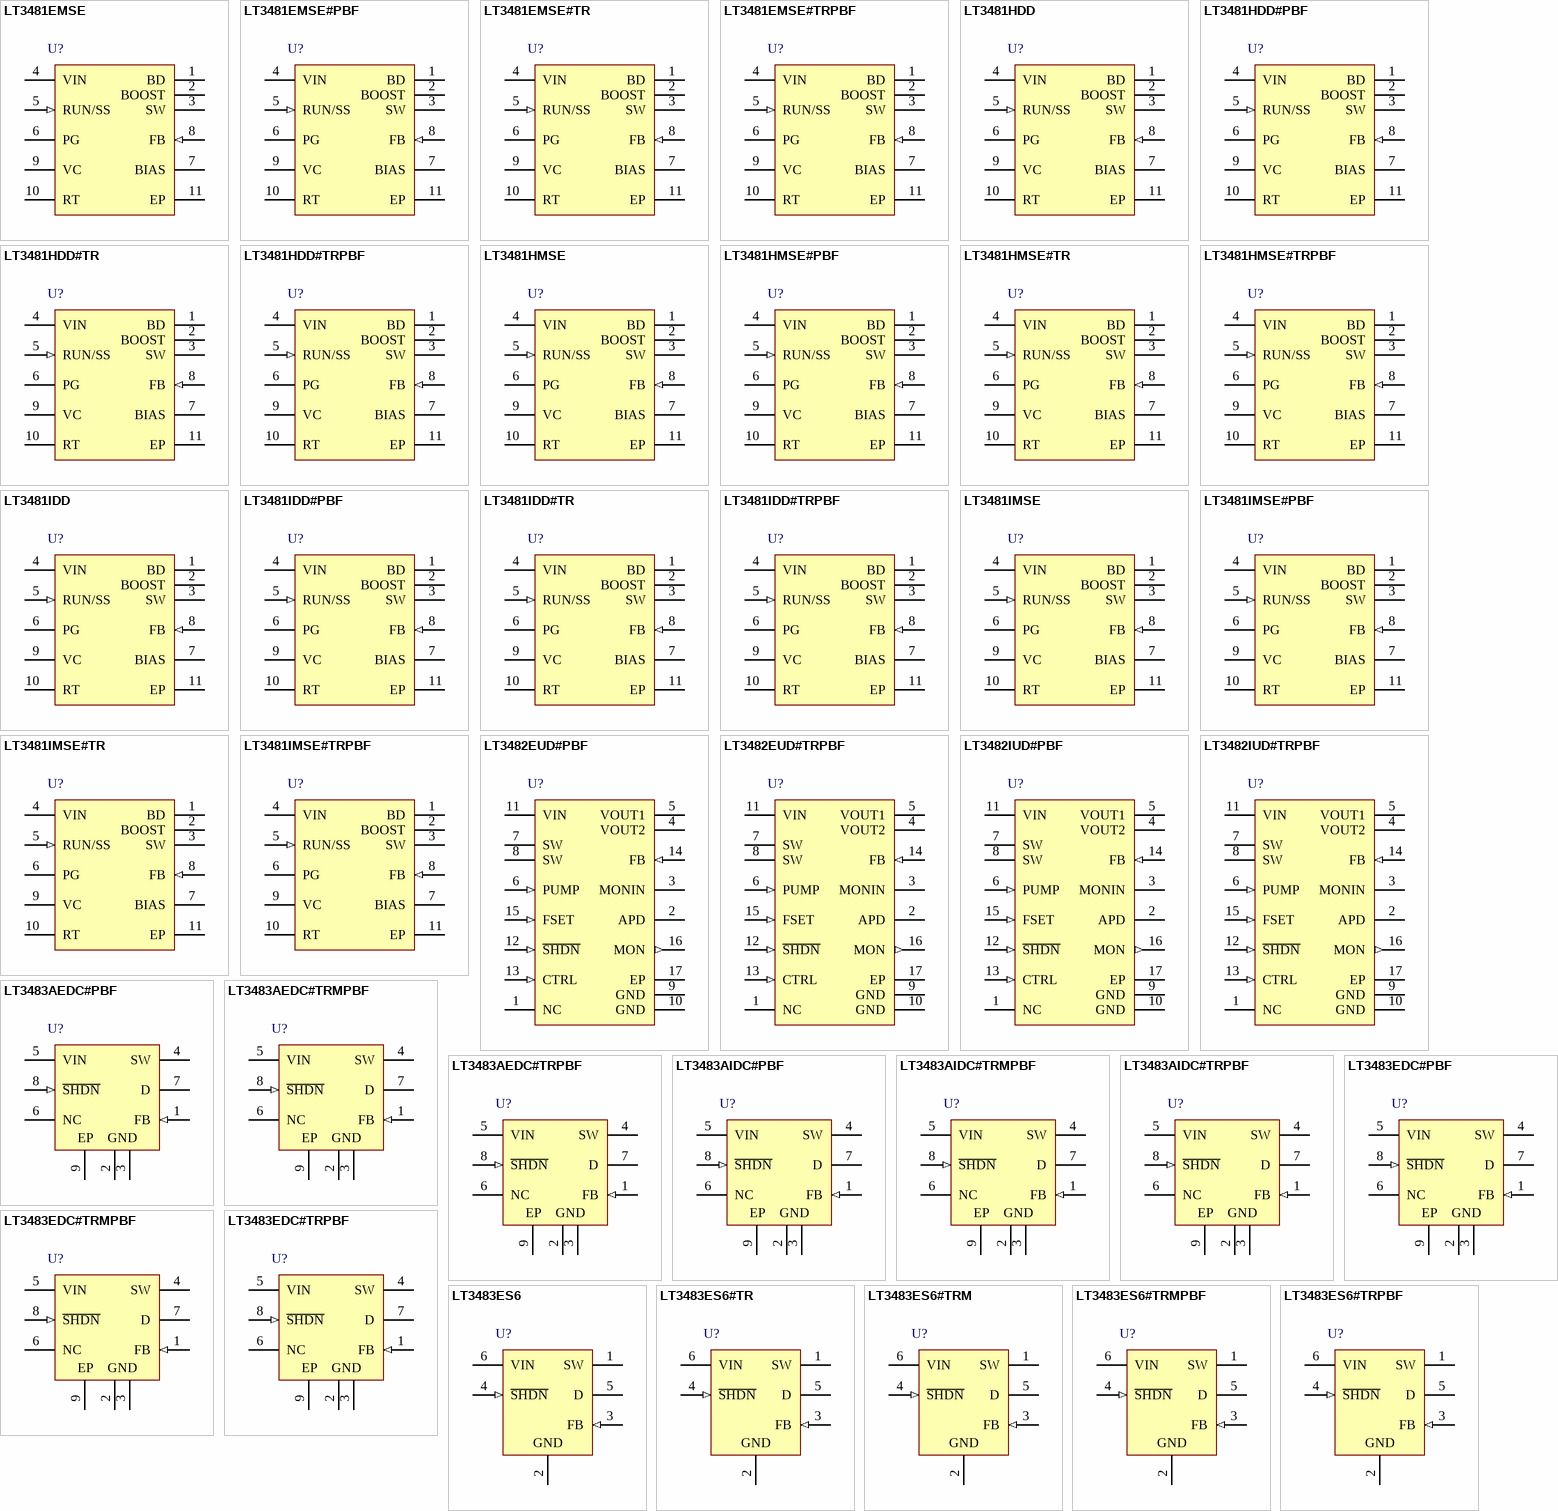
[diagram p40: symbols LT3481EMSE to LT3483ES6#TRPBF]

## LT3481EMSE
designator U?
2 A, 2.8 MHz Step-Down Switching Regulator with 50 uA Quiescent Current, 10-pin SOP (MSE-10-EDP), -40 to 85 degC; Manufacturer: Linear Technology; PartNumber: LT3481EMSE; Number of Outputs: 1; PackageReference: MSE-10; PackageDescription: 10-Pin Plastic MSOP, Exposed Die Pad, Body 3 x 3 mm, Pitch 0.5 mm; RoHS: FALSE
footprint LT-MSE-10-EDP-2060x1830TP_N (SOP, 10-Leads, Body 3.1x3.1mm, Pitch 0.5mm, Thermal Pad 2.17x1.94mm, IPC Medium Density)
footprint LT-MSE-10-EDP-2060x1830TP_L (SOP, 10-Leads, Body 3.1x3.1mm, Pitch 0.5mm, Thermal Pad 2.17x1.94mm, IPC High Density)
footprint LT-MSE-10-EDP-2060x1830TP_M (SOP, 10-Leads, Body 3.1x3.1mm, Pitch 0.5mm, Thermal Pad 2.17x1.94mm, IPC Low Density)
pins: 1 BD (power) "This pin connects to the anode of the boost Schottky diode.", 2 BOOST "This pin is used to provide a drive voltage, higher than the input voltage, to the internal bipolar NPN power switch.", 3 SW (power) "The SW pin is the output of the internal power switch. Connect this pin to the inductor, catch diode and boost capacitor.", 4 VIN (power) "The VIN pin supplies current to the LT3481's internal regulator and to the internal power switch. This pin must be locally bypassed.", 5 RUN/SS (in) "The RUN/SS pin is used to put the LT3481 in shutdown mode. Tie to ground to shut down the LT3481. Tie to 2.3V or more for normal operation. If the shutdown feature is not used, tie this pin to the VIN pin. RUN/SS also (See Datasheet)", 6 PG (oc) "The PG pin is the open-collector output of an internal comparator. PG remains low until the FB pin is within 10% of the final regulation voltage. PG output is valid when VIN is above 3.5V and RUN/SS is high.", 7 BIAS (power) "The BIAS pin supplies the current to the LT3481's internal regulator. Tie this pin to the lowest available voltage source above 3V (typically VOUT). This architecture increases efficiency especially when the input voltag(See Datasheet)", 8 FB (in) "The LT3481 regulates the FB pin to 1.265V. Connect the feedback resistor divider tap to this pin.", 9 VC "The VC pin is the output of the internal error amplifier. The voltage on this pin controls the peak switch current. Tie an RC network from this pin to ground to compensate the control loop.", 10 RT "Oscillator Resistor Input. Connecting a resistor to ground from this pin sets the switching frequency.", 11 EP (power) "Ground. The Exposed Pad must be soldered to PCB."

## LT3481EMSE#PBF
designator U?
2 A, 2.8 MHz Step-Down Switching Regulator with 50 uA Quiescent Current, 10-pin SOP (MSE-10-EDP), -40 to 85 degC, Pb-Free; Manufacturer: Linear Technology; PartNumber: LT3481EMSE#PBF; Number of Outputs: 1; PackageReference: MSE-10; PackageDescription: 10-Pin Plastic MSOP, Exposed Die Pad, Body 3 x 3 mm, Pitch 0.5 mm; Supplier 1: Digi-Key; Supplier Part Number 1: LT3481EMSE#PBF-ND; RoHS: TRUE
footprint LT-MSE-10-EDP-2060x1830TP_N (SOP, 10-Leads, Body 3.1x3.1mm, Pitch 0.5mm, Thermal Pad 2.17x1.94mm, IPC Medium Density)
footprint LT-MSE-10-EDP-2060x1830TP_L (SOP, 10-Leads, Body 3.1x3.1mm, Pitch 0.5mm, Thermal Pad 2.17x1.94mm, IPC High Density)
footprint LT-MSE-10-EDP-2060x1830TP_M (SOP, 10-Leads, Body 3.1x3.1mm, Pitch 0.5mm, Thermal Pad 2.17x1.94mm, IPC Low Density)
pins: 1 BD (power) "This pin connects to the anode of the boost Schottky diode.", 2 BOOST "This pin is used to provide a drive voltage, higher than the input voltage, to the internal bipolar NPN power switch.", 3 SW (power) "The SW pin is the output of the internal power switch. Connect this pin to the inductor, catch diode and boost capacitor.", 4 VIN (power) "The VIN pin supplies current to the LT3481's internal regulator and to the internal power switch. This pin must be locally bypassed.", 5 RUN/SS (in) "The RUN/SS pin is used to put the LT3481 in shutdown mode. Tie to ground to shut down the LT3481. Tie to 2.3V or more for normal operation. If the shutdown feature is not used, tie this pin to the VIN pin. RUN/SS also (See Datasheet)", 6 PG (oc) "The PG pin is the open-collector output of an internal comparator. PG remains low until the FB pin is within 10% of the final regulation voltage. PG output is valid when VIN is above 3.5V and RUN/SS is high.", 7 BIAS (power) "The BIAS pin supplies the current to the LT3481's internal regulator. Tie this pin to the lowest available voltage source above 3V (typically VOUT). This architecture increases efficiency especially when the input voltag(See Datasheet)", 8 FB (in) "The LT3481 regulates the FB pin to 1.265V. Connect the feedback resistor divider tap to this pin.", 9 VC "The VC pin is the output of the internal error amplifier. The voltage on this pin controls the peak switch current. Tie an RC network from this pin to ground to compensate the control loop.", 10 RT "Oscillator Resistor Input. Connecting a resistor to ground from this pin sets the switching frequency.", 11 EP (power) "Ground. The Exposed Pad must be soldered to PCB."

## LT3481EMSE#TR
designator U?
2 A, 2.8 MHz Step-Down Switching Regulator with 50 uA Quiescent Current, 10-pin SOP (MSE-10-EDP), -40 to 85 degC, Tape and Reel; Manufacturer: Linear Technology; PartNumber: LT3481EMSE#TR; Number of Outputs: 1; PackageReference: MSE-10; PackageDescription: 10-Pin Plastic MSOP, Exposed Die Pad, Body 3 x 3 mm, Pitch 0.5 mm; RoHS: FALSE
footprint LT-MSE-10-EDP-2060x1830TP_N (SOP, 10-Leads, Body 3.1x3.1mm, Pitch 0.5mm, Thermal Pad 2.17x1.94mm, IPC Medium Density)
footprint LT-MSE-10-EDP-2060x1830TP_L (SOP, 10-Leads, Body 3.1x3.1mm, Pitch 0.5mm, Thermal Pad 2.17x1.94mm, IPC High Density)
footprint LT-MSE-10-EDP-2060x1830TP_M (SOP, 10-Leads, Body 3.1x3.1mm, Pitch 0.5mm, Thermal Pad 2.17x1.94mm, IPC Low Density)
pins: 1 BD (power) "This pin connects to the anode of the boost Schottky diode.", 2 BOOST "This pin is used to provide a drive voltage, higher than the input voltage, to the internal bipolar NPN power switch.", 3 SW (power) "The SW pin is the output of the internal power switch. Connect this pin to the inductor, catch diode and boost capacitor.", 4 VIN (power) "The VIN pin supplies current to the LT3481's internal regulator and to the internal power switch. This pin must be locally bypassed.", 5 RUN/SS (in) "The RUN/SS pin is used to put the LT3481 in shutdown mode. Tie to ground to shut down the LT3481. Tie to 2.3V or more for normal operation. If the shutdown feature is not used, tie this pin to the VIN pin. RUN/SS also (See Datasheet)", 6 PG (oc) "The PG pin is the open-collector output of an internal comparator. PG remains low until the FB pin is within 10% of the final regulation voltage. PG output is valid when VIN is above 3.5V and RUN/SS is high.", 7 BIAS (power) "The BIAS pin supplies the current to the LT3481's internal regulator. Tie this pin to the lowest available voltage source above 3V (typically VOUT). This architecture increases efficiency especially when the input voltag(See Datasheet)", 8 FB (in) "The LT3481 regulates the FB pin to 1.265V. Connect the feedback resistor divider tap to this pin.", 9 VC "The VC pin is the output of the internal error amplifier. The voltage on this pin controls the peak switch current. Tie an RC network from this pin to ground to compensate the control loop.", 10 RT "Oscillator Resistor Input. Connecting a resistor to ground from this pin sets the switching frequency.", 11 EP (power) "Ground. The Exposed Pad must be soldered to PCB."

## LT3481EMSE#TRPBF
designator U?
2 A, 2.8 MHz Step-Down Switching Regulator with 50 uA Quiescent Current, 10-pin SOP (MSE-10-EDP), -40 to 85 degC, Pb-Free, Tape and Reel; Manufacturer: Linear Technology; PartNumber: LT3481EMSE#TRPBF; Number of Outputs: 1; PackageReference: MSE-10; PackageDescription: 10-Pin Plastic MSOP, Exposed Die Pad, Body 3 x 3 mm, Pitch 0.5 mm; Supplier 1: Digi-Key; Supplier Part Number 1: LT3481EMSE#TRPBFTR-ND; RoHS: TRUE
footprint LT-MSE-10-EDP-2060x1830TP_N (SOP, 10-Leads, Body 3.1x3.1mm, Pitch 0.5mm, Thermal Pad 2.17x1.94mm, IPC Medium Density)
footprint LT-MSE-10-EDP-2060x1830TP_L (SOP, 10-Leads, Body 3.1x3.1mm, Pitch 0.5mm, Thermal Pad 2.17x1.94mm, IPC High Density)
footprint LT-MSE-10-EDP-2060x1830TP_M (SOP, 10-Leads, Body 3.1x3.1mm, Pitch 0.5mm, Thermal Pad 2.17x1.94mm, IPC Low Density)
pins: 1 BD (power) "This pin connects to the anode of the boost Schottky diode.", 2 BOOST "This pin is used to provide a drive voltage, higher than the input voltage, to the internal bipolar NPN power switch.", 3 SW (power) "The SW pin is the output of the internal power switch. Connect this pin to the inductor, catch diode and boost capacitor.", 4 VIN (power) "The VIN pin supplies current to the LT3481's internal regulator and to the internal power switch. This pin must be locally bypassed.", 5 RUN/SS (in) "The RUN/SS pin is used to put the LT3481 in shutdown mode. Tie to ground to shut down the LT3481. Tie to 2.3V or more for normal operation. If the shutdown feature is not used, tie this pin to the VIN pin. RUN/SS also (See Datasheet)", 6 PG (oc) "The PG pin is the open-collector output of an internal comparator. PG remains low until the FB pin is within 10% of the final regulation voltage. PG output is valid when VIN is above 3.5V and RUN/SS is high.", 7 BIAS (power) "The BIAS pin supplies the current to the LT3481's internal regulator. Tie this pin to the lowest available voltage source above 3V (typically VOUT). This architecture increases efficiency especially when the input voltag(See Datasheet)", 8 FB (in) "The LT3481 regulates the FB pin to 1.265V. Connect the feedback resistor divider tap to this pin.", 9 VC "The VC pin is the output of the internal error amplifier. The voltage on this pin controls the peak switch current. Tie an RC network from this pin to ground to compensate the control loop.", 10 RT "Oscillator Resistor Input. Connecting a resistor to ground from this pin sets the switching frequency.", 11 EP (power) "Ground. The Exposed Pad must be soldered to PCB."

## LT3481HDD
designator U?
2 A, 2.8 MHz Step-Down Switching Regulator with 50 uA Quiescent Current, 10-pin SON (DD-10), -40 to 150 degC; Manufacturer: Linear Technology; PartNumber: LT3481HDD; Number of Outputs: 1; PackageReference: DD-10; PackageDescription: 10-Pin Plastic DFN, Body 3 x 3 mm, Pitch 0.5 mm; RoHS: FALSE
footprint LT-DD-10_V (SON, 10-Leads, Body 3x3mm, Pitch 0.5mm, Thermal Pad 2.38x1.65mm)
pins: 1 BD (power) "This pin connects to the anode of the boost Schottky diode.", 2 BOOST "This pin is used to provide a drive voltage, higher than the input voltage, to the internal bipolar NPN power switch.", 3 SW (power) "The SW pin is the output of the internal power switch. Connect this pin to the inductor, catch diode and boost capacitor.", 4 VIN (power) "The VIN pin supplies current to the LT3481's internal regulator and to the internal power switch. This pin must be locally bypassed.", 5 RUN/SS (in) "The RUN/SS pin is used to put the LT3481 in shutdown mode. Tie to ground to shut down the LT3481. Tie to 2.3V or more for normal operation. If the shutdown feature is not used, tie this pin to the VIN pin. RUN/SS also (See Datasheet)", 6 PG (oc) "The PG pin is the open-collector output of an internal comparator. PG remains low until the FB pin is within 10% of the final regulation voltage. PG output is valid when VIN is above 3.5V and RUN/SS is high.", 7 BIAS (power) "The BIAS pin supplies the current to the LT3481's internal regulator. Tie this pin to the lowest available voltage source above 3V (typically VOUT). This architecture increases efficiency especially when the input voltag(See Datasheet)", 8 FB (in) "The LT3481 regulates the FB pin to 1.265V. Connect the feedback resistor divider tap to this pin.", 9 VC "The VC pin is the output of the internal error amplifier. The voltage on this pin controls the peak switch current. Tie an RC network from this pin to ground to compensate the control loop.", 10 RT "Oscillator Resistor Input. Connecting a resistor to ground from this pin sets the switching frequency.", 11 EP (power) "Ground. The Exposed Pad must be soldered to PCB."